# Altium footprint library QFN40P750X750X80-65N-D.PcbLib: 1 footprints
Each footprint in its own frame and in the unit in brackets; x right, y up, seen from the top. Pads: shape width x height; smd on the part's side, far side on the other; paste and mask are expansions set on the pad; w line width, h text height; cw(c..) or ccw(c..) is an arc to the next point about the centre after c.
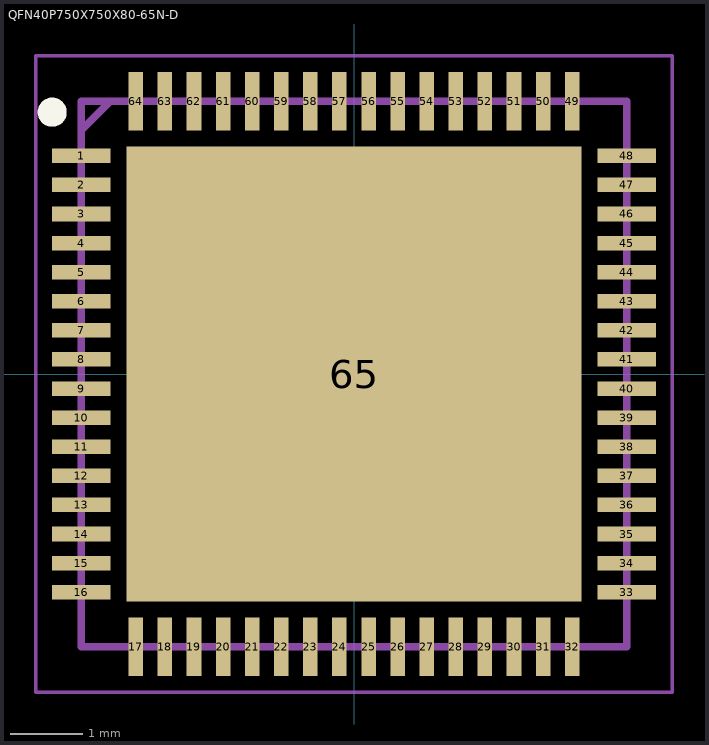
[diagram p0: the footprint, top view; thin cyan lines are the x and y axes]

## QFN40P750X750X80-65N-D [mm]
pads (65):
  rect 0.8x0.2 smd: 1(-3.75,3) 2(-3.75,2.6) 3(-3.75,2.2) 4(-3.75,1.8) 5(-3.75,1.4) 6(-3.75,1) 7(-3.75,0.6) 8(-3.75,0.2) 9(-3.75,-0.2) 10(-3.75,-0.6) 11(-3.75,-1) 12(-3.75,-1.4) 13(-3.75,-1.8) 14(-3.75,-2.2) 15(-3.75,-2.6) 16(-3.75,-3) 33(3.75,-3) 34(3.75,-2.6) 35(3.75,-2.2) 36(3.75,-1.8) 37(3.75,-1.4) 38(3.75,-1) 39(3.75,-0.6) 40(3.75,-0.2) 41(3.75,0.2) 42(3.75,0.6) 43(3.75,1) 44(3.75,1.4) 45(3.75,1.8) 46(3.75,2.2) 47(3.75,2.6) 48(3.75,3)
  rect 0.2x0.8 smd: 17(-3,-3.75) 18(-2.6,-3.75) 19(-2.2,-3.75) 20(-1.8,-3.75) 21(-1.4,-3.75) 22(-1,-3.75) 23(-0.6,-3.75) 24(-0.2,-3.75) 25(0.2,-3.75) 26(0.6,-3.75) 27(1,-3.75) 28(1.4,-3.75) 29(1.8,-3.75) 30(2.2,-3.75) 31(2.6,-3.75) 32(3,-3.75) 49(3,3.75) 50(2.6,3.75) 51(2.2,3.75) 52(1.8,3.75) 53(1.4,3.75) 54(1,3.75) 55(0.6,3.75) 56(0.2,3.75) 57(-0.2,3.75) 58(-0.6,3.75) 59(-1,3.75) 60(-1.4,3.75) 61(-1.8,3.75) 62(-2.2,3.75) 63(-2.6,3.75) 64(-3,3.75)
  rect 6.25x6.25 smd: 65(0,0)
Top Overlay:
  circle w0.2: c-4.15,3.6 r0.1
Mechanical 15:
  lines w0.1: -3.75,3.35 -3.35,3.75 ; -3.75,-3.75 3.75,-3.75 3.75,3.75 -3.75,3.75 -3.75,-3.75
Mechanical 20:
  lines w0.05: -4.375,-4.375 4.375,-4.375 4.375,4.375 -4.375,4.375 -4.375,-4.375